# Altium schematic symbol library Relay.SchLib: 1 symbol
Pins are listed as number, name and electrical type; pins without a type are passive.

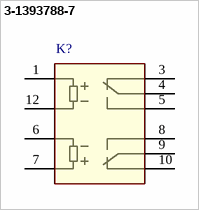
[diagram p0: symbol 3-1393788-7]

## 3-1393788-7
designator K?  (value not drawn)
Electromechanical Relay 24VDC 4.114KOhm 2A DPDT __ 14.5mm 7.2mm 9.8mm__ THT Signal Relay Automotive Medical; MF: TE Connectivity; Availability: Unavailable; SnapEDA_Link: https://www.snapeda.com/parts/3-1393788-7/TE%20Connectivity/view-part/?ref=snap; EU_RoHS_Compliance: Compliant; Price: None; TE_purchase_URL: https://www.te.com/usa-en/product-3-1393788-7.html?te_bu=Cor&te_type=disp&te_campaign=seda_glo_cor-seda-global-disp-prtnr-fy19-seda-model-bom-cta_sma-317_1&elqCampaignId=32493; Package: None; MP: 3-1393788-7; Value: *
footprint TE_3-1393788-7
pins: 1, 3, 4, 5, 6, 7, 8, 9, 10, 12